# EAGLE library part TFT_18_PIN_TOUCH (library LW_DUB)
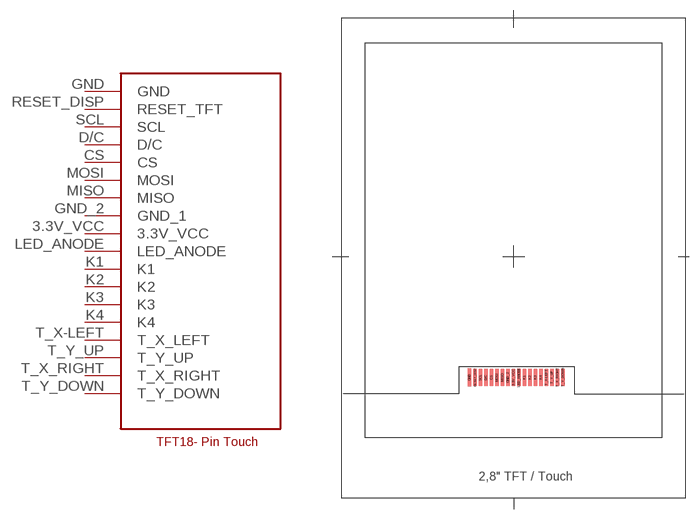
[diagram p11: symbol with the pads of TFT_18_PIN_TOUCH; footprint TFT_18_PIN_TOUCH]

Designator prefix -

## TFT_18_PIN_TOUCH  [TFT_18_PIN_TOUCH]
3.3V_VCC  3.3V_VCC
CS  CS
D/C  D/C
GND  GND
GND_2  GND_1
K1  K1
K2  K2
K3  K3
K4  K4
LED_ANODE  LED_ANODE
MISO  MISO
MOSI  MOSI
RESET_DISP  RESET_TFT
SCL  SCL
T_X-LEFT  T_X_LEFT
T_X_RIGHT  T_X_RIGHT
T_Y_DOWN  T_Y_DOWN
T_Y_UP  T_Y_UP

## Footprint TFT_18_PIN_TOUCH (pad centres in mm)
smd 0.5 x 2.5: 3.3V_VCC 0,17.6; CS -3.2,17.6; D/C -4,17.6; GND -6.4,17.6; GND_2 -0.8,17.6; K1 1.6,17.6; K2 2.4,17.6; K3 3.2,17.6; K4 4,17.6; LED_ANODE 0.8,17.6; MISO -1.6,17.6; MOSI -2.4,17.6; RESET_DISP -5.6,17.6; SCL -4.8,17.6; T_X-LEFT 4.8,17.6; T_X_RIGHT 6.4,17.6; T_Y_DOWN 7.2,17.6; T_Y_UP 5.6,17.6